# Altium footprint library SparkFun-Resistors.PCBLIB: 28 footprints (part 2 of 2)
Each footprint in its own frame and in the unit in brackets; x right, y up, seen from the top. Pads: shape width x height; smd on the part's side, far side on the other; paste and mask are expansions set on the pad; w line width, h text height; cw(c..) or ccw(c..) is an arc to the next point about the centre after c.
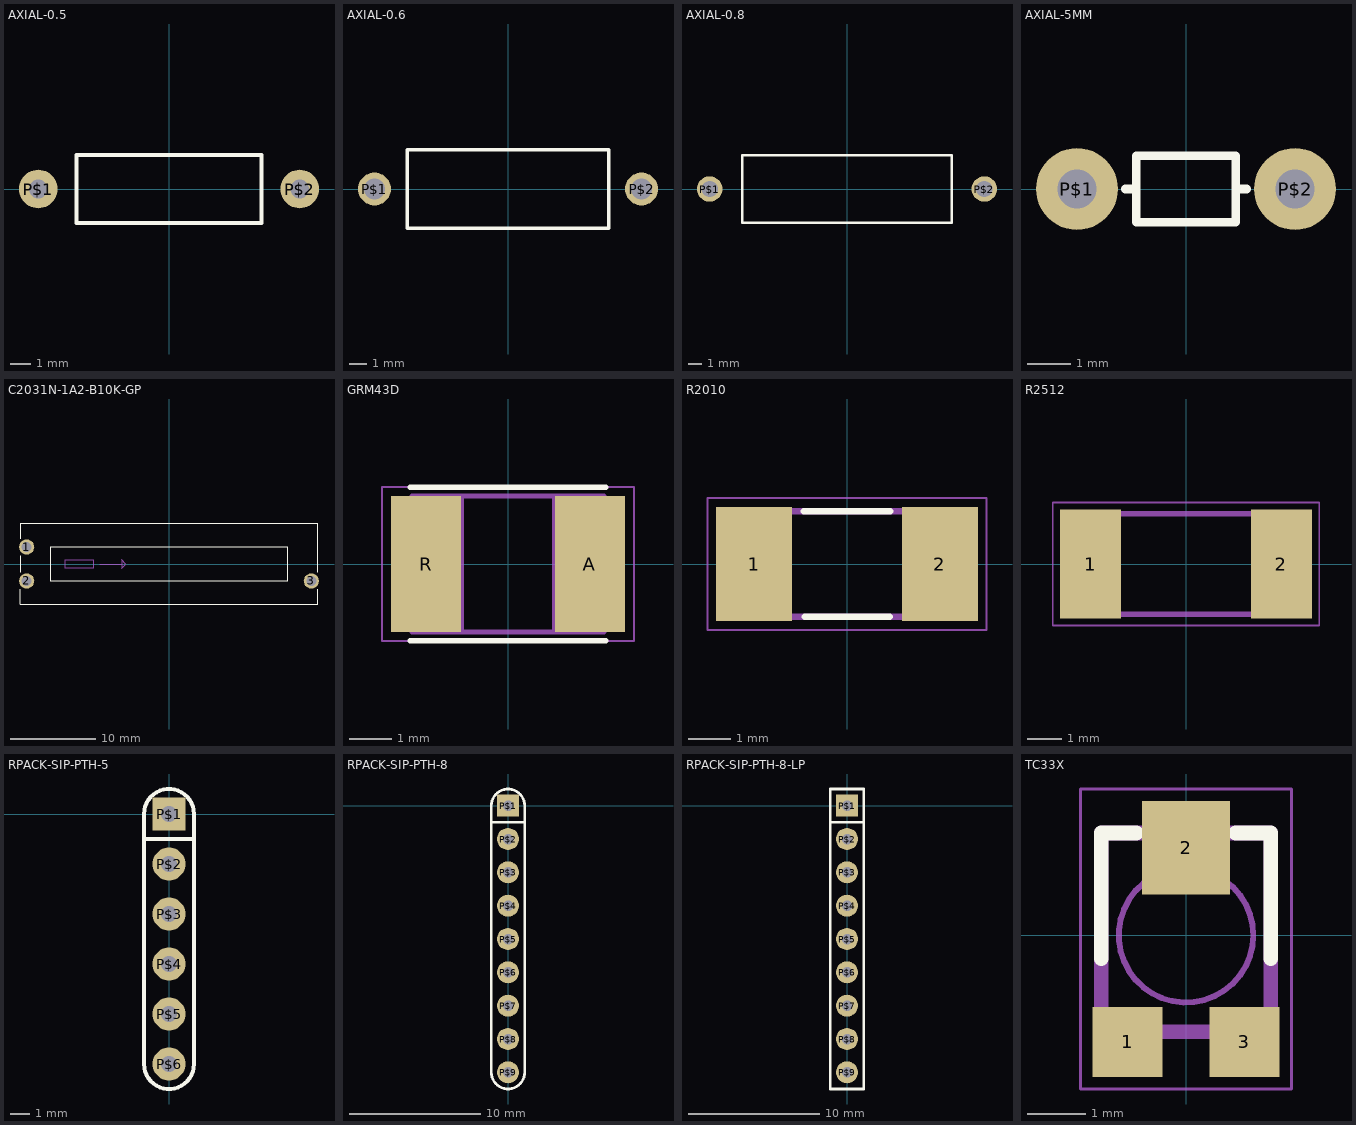
[diagram p1: the footprints below, top view; thin cyan lines are the x and y axes]

## AXIAL-0.5 [mil]
pads (2):
  round 74 hole 35.43: P$1(-250,0) P$2(250,0)
Top Overlay:
  lines w8: -177.17,-64.96 -177.17,64.96 177.17,64.96 177.17,-64.96 -177.17,-64.96

## AXIAL-0.6 [mil]
pads (2):
  round 74 hole 47.24: P$1(-300,0) P$2(300,0)
Top Overlay:
  lines w8: -226.38,-88.58 -226.38,88.58 226.38,88.58 226.38,-88.58 -226.38,-88.58

## AXIAL-0.8 [mil]
pads (2):
  round 74 hole 47.24: P$1(-400,0) P$2(400,0)
Top Overlay:
  lines w8: -305.12,-98.43 -305.12,98.43 305.12,98.43 305.12,-98.43 -305.12,-98.43

## AXIAL-5MM [mil]
pads (2):
  round 74 hole 35.43: P$1(-98.43,0) P$2(98.43,0)
Top Overlay:
  lines w8: -54.88,0 -44.88,0 ; 54.88,0 44.88,0 ; -44.88,0 -44.88,-30 44.88,-30 44.88,0 ; -44.88,0 -44.88,30 44.88,30 44.88,0

## C2031N-1A2-B10K-GP [mm]
pads (3):
  round 1.8 hole 1.2: 1(-16.75,2) 2(-16.75,-2) 3(16.75,-2)
Top Overlay:
  lines w0.127: -17.5,-3 -17.5,-4.75 17.5,-4.75 17.5,-3 ; -17.5,-1 -17.5,1 ; -17.5,3 -17.5,4.75 17.5,4.75 17.5,-1 ; -14,-2 -14,2 14,2 14,-2 -14,-2
Mechanical 13:
  lines w0.127: -8.128,0 -5.588,0 ; -5.588,0 -5.588,-0.508 -5.08,0 -5.588,0.508 -5.588,0 ; -12.192,-0.508 -8.89,-0.508 -8.89,0.508 -12.192,0.508 -12.192,-0.508

## GRM43D [mm]
pads (2):
  rect 1.65x3.2 smd: A(1.927,0) R(-1.927,0)
Top Overlay:
  lines w0.127: -2.3,-1.8 2.3,-1.8 ; -2.3,1.8 2.3,1.8
Mechanical 16:
  rectangle: -2.2,-1.6 -1.1,1.6
  rectangle: 1.1,-1.6 2.2,1.6
  lines w0.127: -1.1,-1.6 -2.25,-1.6 -2.25,1.6 -1.1,1.6 ; -1.1,-1.6 1.1,-1.6 ; -1.1,-1.6 -1.1,1.6 ; -1.1,1.6 1.1,1.6 ; 1.1,-1.6 2.25,-1.6 2.25,1.6 1.1,1.6 ; 1.1,-1.6 1.1,1.6
Mechanical 27:
  lines w0.051: -2.959,-1.808 2.959,-1.808 2.959,1.808 -2.959,1.808 -2.959,-1.808

## R2010 [mil]
pads (2):
  rect 70.87x106.3 smd: 1(-86.61,0) 2(86.61,0)
Top Overlay:
  lines w6: -40.43,49.02 40.43,49.02 ; -39.45,-49.02 40,-49.02
Mechanical 16:
  rectangle: -98,-52 -64.54,52.33
  rectangle: 65,-52 98.46,52.33
  lines w6: -65.43,49.02 65.43,49.02 ; -64.45,-49.02 66.42,-49.02
Mechanical 27:
  lines w2: -130,-61.5 130,-61.5 130,61.5 -130,61.5 -130,-61.5

## R2512 [mil]
pads (2):
  rect 70.87x125.98 smd: 1(-110.24,0) 2(110.24,0)
Mechanical 16:
  rectangle: -126,-61 -92.54,61.05
  rectangle: 93,-61 126.46,61.05
  lines w6: -92.99,-57.99 93.98,-57.99 ; -92.99,57.99 93.98,57.99
Mechanical 27:
  lines w2: -154,-71 154,-71 154,71 -154,71 -154,-71

## RPACK-SIP-PTH-5 [mil]
pads (6):
  rect 66x66 hole 31.5: P$1(0,0)
  round 66 hole 31.5: P$2(0,-100) P$3(0,-200) P$4(0,-300) P$5(0,-400) P$6(0,-500)
Top Overlay:
  lines w8: -50,-50 -50,0 cw(c0,0) 50,0 50,-50 ; -50,-50 -50,-500 ccw(c0,-500) 50,-500 50,-50 ; -50,-50 50,-50

## RPACK-SIP-PTH-8 [mil]
pads (9):
  rect 66x66 hole 31.5: P$1(0,0)
  round 66 hole 31.5: P$2(0,-100) P$3(0,-200) P$4(0,-300) P$5(0,-400) P$6(0,-500) P$7(0,-600) P$8(0,-700) P$9(0,-800)
Top Overlay:
  lines w8: -50,-50 -50,0 cw(c0,0) 50,0 50,-50 ; -50,-50 -50,-800 ccw(c0,-800) 50,-800 50,-50 ; -50,-50 50,-50

## RPACK-SIP-PTH-8-LP [mil]
pads (9):
  rect 66x66 hole 31.5: P$1(0,0)
  round 66 hole 31.5: P$2(0,-100) P$3(0,-200) P$4(0,-300) P$5(0,-400) P$6(0,-500) P$7(0,-600) P$8(0,-700) P$9(0,-800)
Top Overlay:
  lines w8: -50,-50 -50,-850 50,-850 50,-50 ; -50,-50 50,-50 ; -50,-50 -50,50 50,50 50,-50

## TC33X [mm]
pads (3):
  rect 1.2x1.2 smd: 1(-1,-1.825) 3(1,-1.825)
  rect 1.5x1.6 smd: 2(0,1.5)
Top Overlay:
  lines w0.254: -1.45,-0.4 -1.45,1.75 -0.85,1.75 ; 0.85,1.75 1.45,1.75 1.45,-0.4
Mechanical 16:
  circle w0.102: c0,0 r1.15
  lines w0.254: -1.45,-1.65 -1.45,1.75 1.45,1.75 1.45,-1.65 -1.45,-1.65
Mechanical 27:
  lines w0.051: -1.803,-2.629 1.803,-2.629 1.803,2.502 -1.803,2.502 -1.803,-2.629